# Altium schematic symbol library P_MOS-AO4407A.SchLib: 1 symbol
Pins are listed as number, name and electrical type; pins without a type are passive.

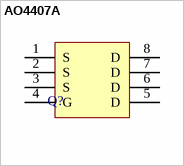
[diagram p0: symbol AO4407A]

## AO4407A
designator Q?
pins: 1 S (oc), 2 S (oc), 3 S (oc), 4 G (oc), 5 D (oc), 6 D (oc), 7 D (oc), 8 D (oc)